# EAGLE library part USB-C-6P (library dpx-con-CUSTOM)
USB Connectors 6 Receptacle 1 RoHS Source: Datasheet <https://datasheet.lcsc.com/szlcsc/1903211732_Korean-Hroparts-Elec-TYPE-C-31-M-17_C283540.pdf> Check prices <https://pricing.snapeda.com/parts/TYPE-C-31-M-17/HRO%20Electronics%20Co.%2C%20Ltd./view-part?ref=eda>
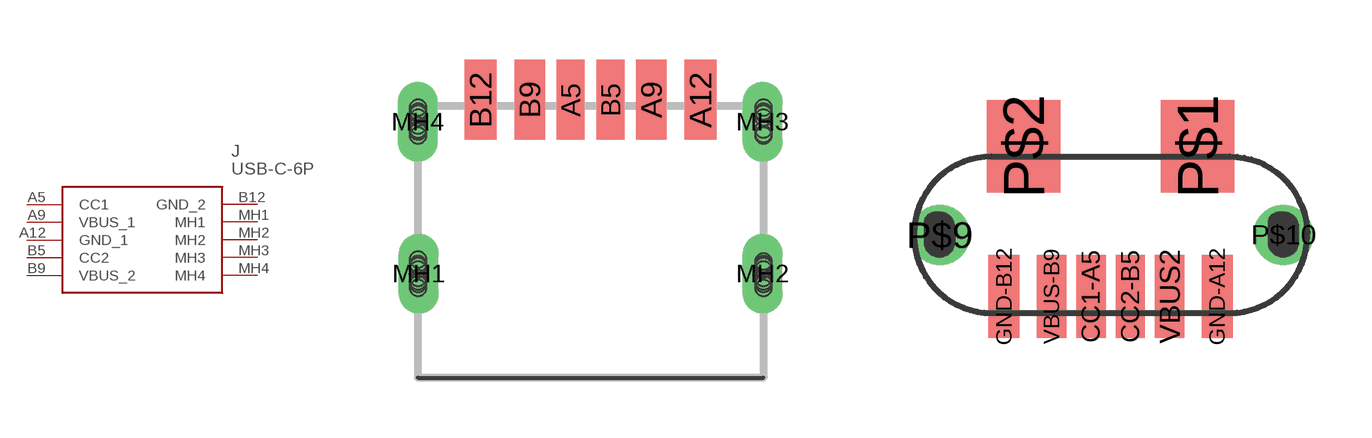
[diagram p22: symbol with the pads of TYPEC31M17; footprints TYPEC31M17, USB-C-XUNPU-TYPEC-243-ARP6X7]

Designator prefix J

## USB-C-6P_31M17 (AVAILABILITY: No availability data; DESCRIPTION: usb type-c; LCPART: C283540; MF: HRO Electronics Co., Ltd.; MP: TYPE-C-31-M-17; PACKAGE: Package; PRICE: None)  [TYPEC31M17]
A5  CC1
A9  VBUS_1
A12  GND_1
B5  CC2
B9  VBUS_2
B12  GND_2
MH1  MH1
MH2  MH2
MH3  MH3
MH4  MH4

## USB-C-6P-VERT-XUNPU (LCPART: C920228)  [USB-C-XUNPU-TYPEC-243-ARP6X7]
CC1-A5  CC1
CC2-B5  CC2
GND-A12  GND_1
GND-B12  GND_2
P$1  MH1
P$2  MH2
P$9  MH3
P$10  MH4
VBUS2  VBUS_2
VBUS-B9  VBUS_1

## USB-C-6P' (LCPART: C456012; LCPART_ALT: C668623; LCPART_ALT2: C709355; MFG: shou han)  [USCX-06FX-XXMX-01]
CC1  CC1
CC2  CC2
GND1  GND_1
GND2  GND_2
SHIELD1  MH1
SHIELD2  MH2
SHIELD3  MH3
SHIELD4  MH4
VBUS1  VBUS_1
VBUS2  VBUS_2

## Footprint TYPEC31M17 (pad centres in mm)
TYPE-C-31-M-17-1
smd 0.7 x 2: A5 -0.5,6.95; B5 0.5,6.95
smd 0.76 x 2: A9 1.52,6.95; B9 -1.52,6.95
smd 0.8 x 2: A12 2.75,6.95; B12 -2.75,6.95
drill 0.4 pad 1 long: MH1 -4.3,2.6; MH2 4.3,2.6; MH3 4.3,6.4; MH4 -4.32,6.4
hole 0.4 at -4.32,6.5
hole 0.4 at -4.32,6.6
hole 0.4 at -4.32,6.3
hole 0.4 at -4.32,6.2
hole 0.4 at -4.32,6.15
hole 0.4 at -4.32,6.65
hole 0.4 at -4.32,2.7
hole 0.4 at -4.32,2.8
hole 0.4 at -4.32,2.5
hole 0.4 at -4.32,2.4
hole 0.4 at 4.32,2.7
hole 0.4 at 4.32,2.8
hole 0.4 at 4.32,2.5
hole 0.4 at 4.32,2.4
hole 0.4 at 4.32,6.5
hole 0.4 at 4.32,6.6
hole 0.4 at 4.32,6.2
hole 0.4 at 4.32,6.1
hole 0.4 at -4.32,2.85
hole 0.4 at -4.32,2.35
hole 0.4 at 4.32,2.35
hole 0.4 at 4.32,2.85
hole 0.4 at 4.32,6.05
hole 0.4 at 4.32,6.65
hole 0.4 at -4.32,2.95
hole 0.4 at -4.32,2.25
hole 0.4 at 4.32,2.25
hole 0.4 at 4.32,2.9
hole 0.4 at 4.32,6.75
hole 0.4 at -4.32,6.75
hole 0.4 at -4.32,6.05

## Footprint USB-C-XUNPU-TYPEC-243-ARP6X7 (pad centres in mm)
smd 0.76 x 2.15: CC1-A5 -0.51,-1.595; CC2-B5 0.51,-1.595; VBUS2 1.525,-1.595; VBUS-B9 -1.525,-1.595
smd 0.8 x 2.15: GND-A12 2.755,-1.595; GND-B12 -2.755,-1.595
smd 1.9 x 2.4: P$1 2.25,2.29; P$2 -2.25,2.29
drill 0.75 pad 1.55: P$9 -4.42,0; P$10 4.47,0

## Footprint USCX-06FX-XXMX-01 (pad centres in mm)
smd 0.7 x 1.2: CC1 0.5,-1.75; CC2 -0.5,-1.75
smd 0.9 x 1.2: GND1 2.75,-1.75; GND2 -2.75,-1.75
drill 0.6 long: SHIELD1 4.325,1.95; SHIELD2 4.325,-1.75; SHIELD3 -4.35,-1.75; SHIELD4 -4.35,1.95
smd 0.8 x 1.2: VBUS1 1.5,-1.75; VBUS2 -1.5,-1.75